# Altium footprint library zuozi.PcbLib: 1 footprints
Each footprint in its own frame and in the unit in brackets; x right, y up, seen from the top. Pads: shape width x height; smd on the part's side, far side on the other; paste and mask are expansions set on the pad; w line width, h text height; cw(c..) or ccw(c..) is an arc to the next point about the centre after c.
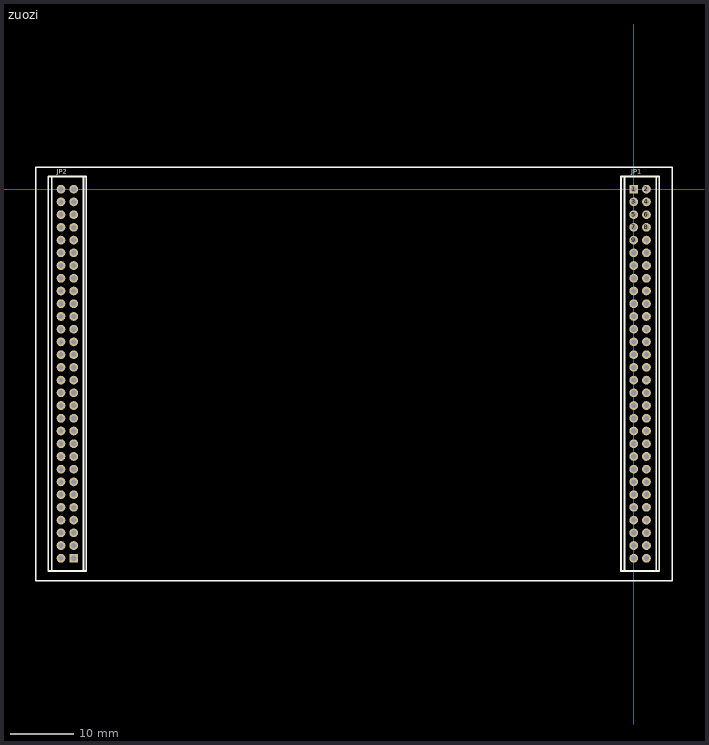
[diagram p0: the footprint, top view; thin cyan lines are the x and y axes]

## zuozi [mil]
pads (120):
  rect 54x54 hole 32: 1(0,0) 61(-3464.57,-2283.46)
  round 54 hole 32: 2(78.74,0) 3(0,-78.74) 4(78.74,-78.74) 5(0,-157.48) 6(78.74,-157.48) 7(0,-236.22) 8(78.74,-236.22) 9(0,-314.96) 10(78.74,-314.96) 11(0,-393.7) 12(78.74,-393.7) 13(0,-472.44) 14(78.74,-472.44) 15(0,-551.18) 16(78.74,-551.18) 17(0,-629.92) 18(78.74,-629.92) 19(0,-708.66) 20(78.74,-708.66) 21(0,-787.4) 22(78.74,-787.4) 23(0,-866.14) 24(78.74,-866.14) 25(0,-944.88) 26(78.74,-944.88) 27(0,-1023.62) 28(78.74,-1023.62) 29(0,-1102.36) 30(78.74,-1102.36) 31(0,-1181.1) 32(78.74,-1181.1) 33(0,-1259.84) 34(78.74,-1259.84) 35(0,-1338.58) 36(78.74,-1338.58) 37(0,-1417.32) 38(78.74,-1417.32) 39(0,-1496.06) 40(78.74,-1496.06) 41(0,-1574.8) 42(78.74,-1574.8) 43(0,-1653.54) 44(78.74,-1653.54) 45(0,-1732.28) 46(78.74,-1732.28) 47(0,-1811.02) 48(78.74,-1811.02) 49(0,-1889.76) 50(78.74,-1889.76) 51(0,-1968.5) 52(78.74,-1968.5) 53(0,-2047.24) 54(78.74,-2047.24) 55(0,-2125.98) 56(78.74,-2125.98) 57(0,-2204.72) 58(78.74,-2204.72) 59(0,-2283.46) 60(78.74,-2283.46) 62(-3543.31,-2283.46) 63(-3464.57,-2204.72) 64(-3543.31,-2204.72) 65(-3464.57,-2125.98) 66(-3543.31,-2125.98) 67(-3464.57,-2047.24) 68(-3543.31,-2047.24) 69(-3464.57,-1968.5) 70(-3543.31,-1968.5) 71(-3464.57,-1889.76) 72(-3543.31,-1889.76) 73(-3464.57,-1811.02) 74(-3543.31,-1811.02) 75(-3464.57,-1732.28) 76(-3543.31,-1732.28) 77(-3464.57,-1653.54) 78(-3543.31,-1653.54) 79(-3464.57,-1574.8) 80(-3543.31,-1574.8) 81(-3464.57,-1496.06) 82(-3543.31,-1496.06) 83(-3464.57,-1417.32) 84(-3543.31,-1417.32) 85(-3464.57,-1338.58) 86(-3543.31,-1338.58) 87(-3464.57,-1259.84) 88(-3543.31,-1259.84) 89(-3464.57,-1181.1) 90(-3543.31,-1181.1) 91(-3464.57,-1102.36) 92(-3543.31,-1102.36) 93(-3464.57,-1023.62) 94(-3543.31,-1023.62) 95(-3464.57,-944.88) 96(-3543.31,-944.88) 97(-3464.57,-866.14) 98(-3543.31,-866.14) 99(-3464.57,-787.4) 100(-3543.31,-787.4) 101(-3464.57,-708.66) 102(-3543.31,-708.66) 103(-3464.57,-629.92) 104(-3543.31,-629.92) 105(-3464.57,-551.18) 106(-3543.31,-551.18) 107(-3464.57,-472.44) 108(-3543.31,-472.44) 109(-3464.57,-393.7) 110(-3543.31,-393.7) 111(-3464.57,-314.96) 112(-3543.31,-314.96) 113(-3464.57,-236.22) 114(-3543.31,-236.22) 115(-3464.57,-157.48) 116(-3543.31,-157.48) 117(-3464.57,-78.74) 118(-3543.31,-78.74) 119(-3464.57,0) 120(-3543.31,0)
Top Overlay:
  lines w10: -3699,-2423 238.01,-2423 238.01,136.06 -3699,136.06 -3699,-2423 ; -3622.05,-2362.2 -3385.83,-2362.2 -3385.83,78.74 -3622.05,78.74 -3622.05,-2362.2 ; -78.74,-2362.2 157.48,-2362.2 157.48,78.74 -78.74,78.74 -78.74,-2362.2
  lines w12: -3600.57,77 -3600.57,-2363.94 -3403.72,-2363.94 -3403.72,77 -3600.26,77 ; 139.27,-2363.95 -57.27,-2363.95 -57.27,77 139.58,77 139.58,-2363.95
  text "JP1" at -15,95 h30
  text "JP2" at -3570,95 h30